# Altium schematic symbol library RF_Filter.SchLib: 201 symbols (part 2 of 2)
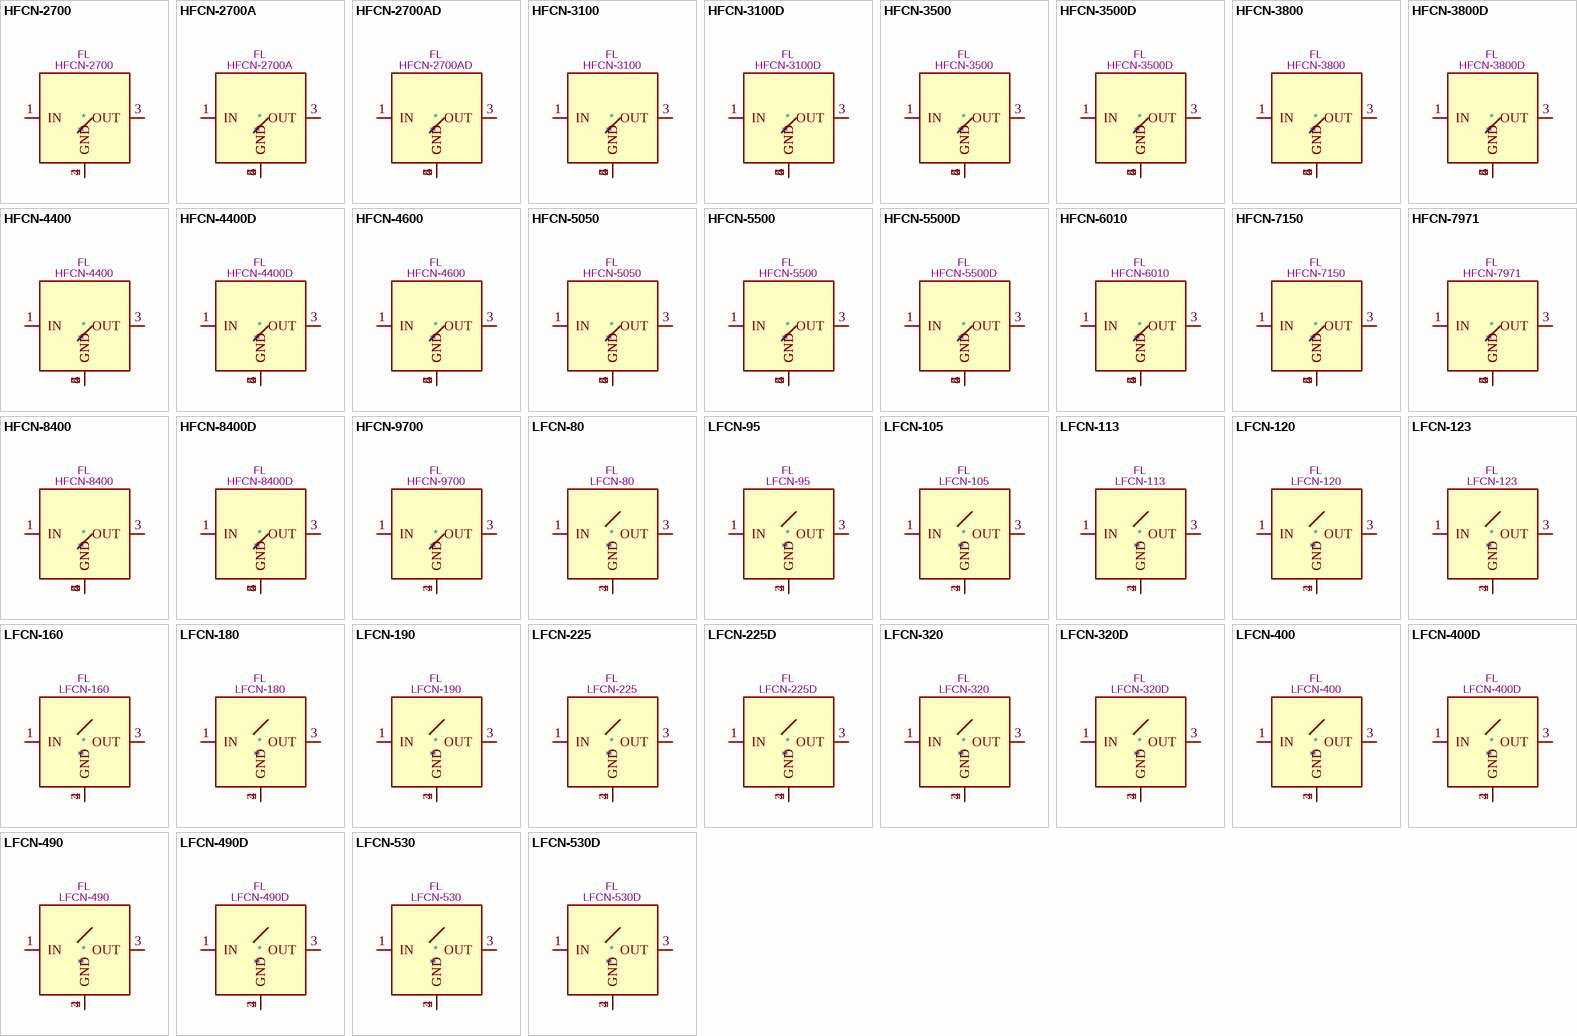
[diagram p6: symbols HFCN-2700 to LFCN-530D]

## LFCN-530D
designator *  value LFCN-530D  Reference: FL
530MHz 50 Ohm Passive Low Pass Filter, DC capable, FV1206; ki_keywords: Mini-Circuits low pass filter; ki_fp_filters: Filter*Mini?Circuits*FV1206*; Footprint: Filter:Filter_Mini-Circuits_FV1206; Datasheet: https://www.minicircuits.com/pdfs/LFCN-530D+.pdf; Description_: 530MHz 50 Ohm Passive Low Pass Filter, DC capable, FV1206
pins: 1 IN, 2 GND, 3 OUT, 4 GND

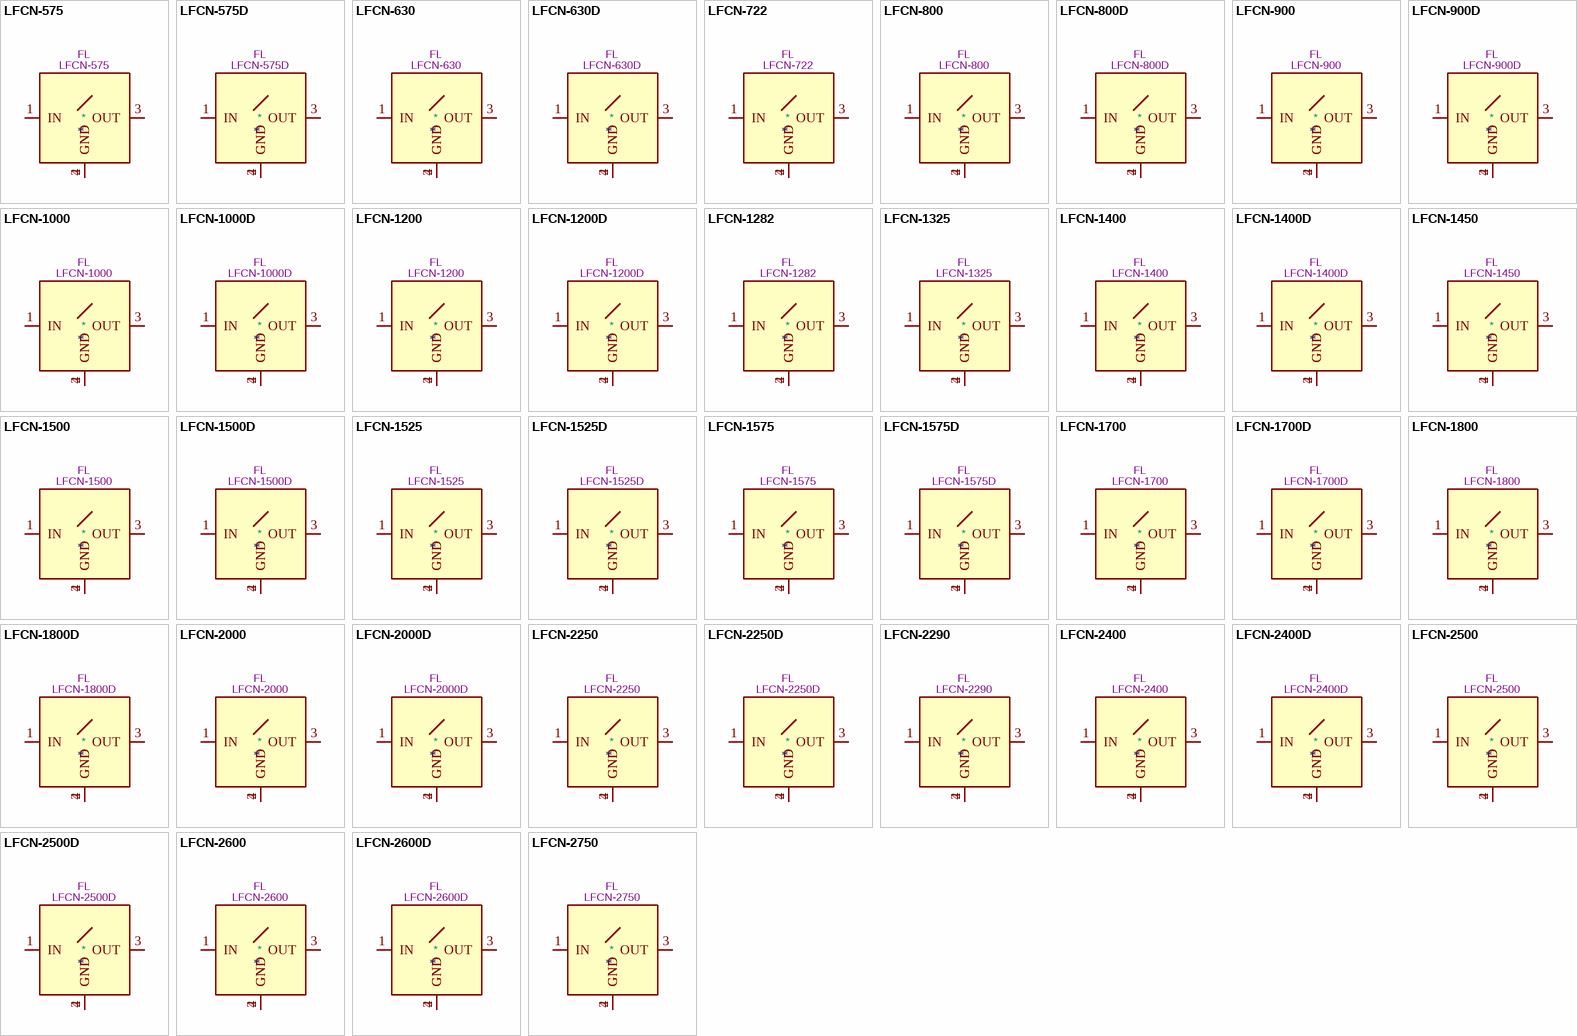
[diagram p3: symbols LFCN-575 to LFCN-2750]

## LFCN-575
designator *  value LFCN-575  Reference: FL
575MHz 50 Ohm Passive Low Pass Filter, FV1206; ki_keywords: Mini-Circuits low pass filter; ki_fp_filters: Filter*Mini?Circuits*FV1206*; Footprint: Filter:Filter_Mini-Circuits_FV1206; Datasheet: https://www.minicircuits.com/pdfs/LFCN-575+.pdf; Description_: 575MHz 50 Ohm Passive Low Pass Filter, FV1206
pins: 1 IN, 2 GND, 3 OUT, 4 GND

## LFCN-575D
designator *  value LFCN-575D  Reference: FL
575MHz 50 Ohm Passive Low Pass Filter, DC capable, FV1206; ki_keywords: Mini-Circuits low pass filter; ki_fp_filters: Filter*Mini?Circuits*FV1206*; Footprint: Filter:Filter_Mini-Circuits_FV1206; Datasheet: https://www.minicircuits.com/pdfs/LFCN-575D+.pdf; Description_: 575MHz 50 Ohm Passive Low Pass Filter, DC capable, FV1206
pins: 1 IN, 2 GND, 3 OUT, 4 GND

## LFCN-630
designator *  value LFCN-630  Reference: FL
630MHz 50 Ohm Passive Low Pass Filter, FV1206; ki_keywords: Mini-Circuits low pass filter; ki_fp_filters: Filter*Mini?Circuits*FV1206*; Footprint: Filter:Filter_Mini-Circuits_FV1206; Datasheet: https://www.minicircuits.com/pdfs/LFCN-630+.pdf; Description_: 630MHz 50 Ohm Passive Low Pass Filter, FV1206
pins: 1 IN, 2 GND, 3 OUT, 4 GND

## LFCN-630D
designator *  value LFCN-630D  Reference: FL
630MHz 50 Ohm Passive Low Pass Filter, DC capable, FV1206; ki_keywords: Mini-Circuits low pass filter; ki_fp_filters: Filter*Mini?Circuits*FV1206*; Footprint: Filter:Filter_Mini-Circuits_FV1206; Datasheet: https://www.minicircuits.com/pdfs/LFCN-630D+.pdf; Description_: 630MHz 50 Ohm Passive Low Pass Filter, DC capable, FV1206
pins: 1 IN, 2 GND, 3 OUT, 4 GND

## LFCN-722
designator *  value LFCN-722  Reference: FL
7200MHz 50 Ohm Passive Low Pass Filter, FV1206; ki_keywords: Mini-Circuits low pass filter; ki_fp_filters: Filter*Mini?Circuits*FV1206*; Footprint: Filter:Filter_Mini-Circuits_FV1206; Datasheet: https://www.minicircuits.com/pdfs/LFCN-722+.pdf; Description_: 7200MHz 50 Ohm Passive Low Pass Filter, FV1206
pins: 1 IN, 2 GND, 3 OUT, 4 GND

## LFCN-800
designator *  value LFCN-800  Reference: FL
800MHz 50 Ohm Passive Low Pass Filter, FV1206; ki_keywords: Mini-Circuits low pass filter; ki_fp_filters: Filter*Mini?Circuits*FV1206*; Footprint: Filter:Filter_Mini-Circuits_FV1206; Datasheet: https://www.minicircuits.com/pdfs/LFCN-800+.pdf; Description_: 800MHz 50 Ohm Passive Low Pass Filter, FV1206
pins: 1 IN, 2 GND, 3 OUT, 4 GND

## LFCN-800D
designator *  value LFCN-800D  Reference: FL
800MHz 50 Ohm Passive Low Pass Filter, DC cabable, FV1206; ki_keywords: Mini-Circuits low pass filter; ki_fp_filters: Filter*Mini?Circuits*FV1206*; Footprint: Filter:Filter_Mini-Circuits_FV1206; Datasheet: https://www.minicircuits.com/pdfs/LFCN-800D+.pdf; Description_: 800MHz 50 Ohm Passive Low Pass Filter, DC cabable, FV1206
pins: 1 IN, 2 GND, 3 OUT, 4 GND

## LFCN-900
designator *  value LFCN-900  Reference: FL
850MHz 50 Ohm Passive Low Pass Filter, FV1206; ki_keywords: Mini-Circuits low pass filter; ki_fp_filters: Filter*Mini?Circuits*FV1206*; Footprint: Filter:Filter_Mini-Circuits_FV1206; Datasheet: https://www.minicircuits.com/pdfs/LFCN-900+.pdf; Description_: 850MHz 50 Ohm Passive Low Pass Filter, FV1206
pins: 1 IN, 2 GND, 3 OUT, 4 GND

## LFCN-900D
designator *  value LFCN-900D  Reference: FL
850MHz 50 Ohm Passive Low Pass Filter, DC cabable, FV1206; ki_keywords: Mini-Circuits low pass filter; ki_fp_filters: Filter*Mini?Circuits*FV1206*; Footprint: Filter:Filter_Mini-Circuits_FV1206; Datasheet: https://www.minicircuits.com/pdfs/LFCN-900D+.pdf; Description_: 850MHz 50 Ohm Passive Low Pass Filter, DC cabable, FV1206
pins: 1 IN, 2 GND, 3 OUT, 4 GND

## LFCN-1000
designator *  value LFCN-1000  Reference: FL
1000MHz 50 Ohm Passive Low Pass Filter, FV1206; ki_keywords: Mini-Circuits low pass filter; ki_fp_filters: Filter*Mini?Circuits*FV1206*; Footprint: Filter:Filter_Mini-Circuits_FV1206; Datasheet: https://www.minicircuits.com/pdfs/LFCN-1000+.pdf; Description_: 1000MHz 50 Ohm Passive Low Pass Filter, FV1206
pins: 1 IN, 2 GND, 3 OUT, 4 GND

## LFCN-1000D
designator *  value LFCN-1000D  Reference: FL
1000MHz 50 Ohm Passive Low Pass Filter, DC capable, FV1206; ki_keywords: Mini-Circuits low pass filter; ki_fp_filters: Filter*Mini?Circuits*FV1206*; Footprint: Filter:Filter_Mini-Circuits_FV1206; Datasheet: https://www.minicircuits.com/pdfs/LFCN-1000D+.pdf; Description_: 1000MHz 50 Ohm Passive Low Pass Filter, DC capable, FV1206
pins: 1 IN, 2 GND, 3 OUT, 4 GND

## LFCN-1200
designator *  value LFCN-1200  Reference: FL
1200MHz 50 Ohm Passive Low Pass Filter, FV1206; ki_keywords: Mini-Circuits low pass filter; ki_fp_filters: Filter*Mini?Circuits*FV1206*; Footprint: Filter:Filter_Mini-Circuits_FV1206; Datasheet: https://www.minicircuits.com/pdfs/LFCN-1200+.pdf; Description_: 1200MHz 50 Ohm Passive Low Pass Filter, FV1206
pins: 1 IN, 2 GND, 3 OUT, 4 GND

## LFCN-1200D
designator *  value LFCN-1200D  Reference: FL
1200MHz 50 Ohm Passive Low Pass Filter, DC capable, FV1206; ki_keywords: Mini-Circuits low pass filter; ki_fp_filters: Filter*Mini?Circuits*FV1206*; Footprint: Filter:Filter_Mini-Circuits_FV1206; Datasheet: https://www.minicircuits.com/pdfs/LFCN-1200D+.pdf; Description_: 1200MHz 50 Ohm Passive Low Pass Filter, DC capable, FV1206
pins: 1 IN, 2 GND, 3 OUT, 4 GND

## LFCN-1282
designator *  value LFCN-1282  Reference: FL
12800MHz 50 Ohm Passive Low Pass Filter, FV1206-4; ki_keywords: Mini-Circuits low pass filter; ki_fp_filters: Filter*Mini?Circuits*FV1206?4*; Footprint: Filter:Filter_Mini-Circuits_FV1206-4; Datasheet: https://www.minicircuits.com/pdfs/LFCN-1282+.pdf; Description_: 12800MHz 50 Ohm Passive Low Pass Filter, FV1206-4
pins: 1 IN, 2 GND, 3 OUT, 4 GND

## LFCN-1325
designator *  value LFCN-1325  Reference: FL
1325MHz 50 Ohm Passive Low Pass Filter, FV1206; ki_keywords: Mini-Circuits low pass filter; ki_fp_filters: Filter*Mini?Circuits*FV1206*; Footprint: Filter:Filter_Mini-Circuits_FV1206; Datasheet: https://www.minicircuits.com/pdfs/LFCN-1325+.pdf; Description_: 1325MHz 50 Ohm Passive Low Pass Filter, FV1206
pins: 1 IN, 2 GND, 3 OUT, 4 GND

## LFCN-1400
designator *  value LFCN-1400  Reference: FL
1400MHz 50 Ohm Passive Low Pass Filter, FV1206; ki_keywords: Mini-Circuits low pass filter; ki_fp_filters: Filter*Mini?Circuits*FV1206*; Footprint: Filter:Filter_Mini-Circuits_FV1206; Datasheet: https://www.minicircuits.com/pdfs/LFCN-1400+.pdf; Description_: 1400MHz 50 Ohm Passive Low Pass Filter, FV1206
pins: 1 IN, 2 GND, 3 OUT, 4 GND

## LFCN-1400D
designator *  value LFCN-1400D  Reference: FL
1400MHz 50 Ohm Passive Low Pass Filter, DC capable, FV1206; ki_keywords: Mini-Circuits low pass filter; ki_fp_filters: Filter*Mini?Circuits*FV1206*; Footprint: Filter:Filter_Mini-Circuits_FV1206; Datasheet: https://www.minicircuits.com/pdfs/LFCN-1400D+.pdf; Description_: 1400MHz 50 Ohm Passive Low Pass Filter, DC capable, FV1206
pins: 1 IN, 2 GND, 3 OUT, 4 GND

## LFCN-1450
designator *  value LFCN-1450  Reference: FL
1450MHz 50 Ohm Passive Low Pass Filter, FV1206; ki_keywords: Mini-Circuits low pass filter; ki_fp_filters: Filter*Mini?Circuits*FV1206*; Footprint: Filter:Filter_Mini-Circuits_FV1206; Datasheet: https://www.minicircuits.com/pdfs/LFCN-1450+.pdf; Description_: 1450MHz 50 Ohm Passive Low Pass Filter, FV1206
pins: 1 IN, 2 GND, 3 OUT, 4 GND

## LFCN-1500
designator *  value LFCN-1500  Reference: FL
1500MHz 50 Ohm Passive Low Pass Filter, FV1206; ki_keywords: Mini-Circuits low pass filter; ki_fp_filters: Filter*Mini?Circuits*FV1206*; Footprint: Filter:Filter_Mini-Circuits_FV1206; Datasheet: https://www.minicircuits.com/pdfs/LFCN-1500+.pdf; Description_: 1500MHz 50 Ohm Passive Low Pass Filter, FV1206
pins: 1 IN, 2 GND, 3 OUT, 4 GND

## LFCN-1500D
designator *  value LFCN-1500D  Reference: FL
1500MHz 50 Ohm Passive Low Pass Filter, DC capable, FV1206; ki_keywords: Mini-Circuits low pass filter; ki_fp_filters: Filter*Mini?Circuits*FV1206*; Footprint: Filter:Filter_Mini-Circuits_FV1206; Datasheet: https://www.minicircuits.com/pdfs/LFCN-1500D+.pdf; Description_: 1500MHz 50 Ohm Passive Low Pass Filter, DC capable, FV1206
pins: 1 IN, 2 GND, 3 OUT, 4 GND

## LFCN-1525
designator *  value LFCN-1525  Reference: FL
1525MHz 50 Ohm Passive Low Pass Filter, FV1206; ki_keywords: Mini-Circuits low pass filter; ki_fp_filters: Filter*Mini?Circuits*FV1206*; Footprint: Filter:Filter_Mini-Circuits_FV1206; Datasheet: https://www.minicircuits.com/pdfs/LFCN-1525+.pdf; Description_: 1525MHz 50 Ohm Passive Low Pass Filter, FV1206
pins: 1 IN, 2 GND, 3 OUT, 4 GND

## LFCN-1525D
designator *  value LFCN-1525D  Reference: FL
1525MHz 50 Ohm Passive Low Pass Filter, DC capable, FV1206; ki_keywords: Mini-Circuits low pass filter; ki_fp_filters: Filter*Mini?Circuits*FV1206*; Footprint: Filter:Filter_Mini-Circuits_FV1206; Datasheet: https://www.minicircuits.com/pdfs/LFCN-1525D+.pdf; Description_: 1525MHz 50 Ohm Passive Low Pass Filter, DC capable, FV1206
pins: 1 IN, 2 GND, 3 OUT, 4 GND

## LFCN-1575
designator *  value LFCN-1575  Reference: FL
1575MHz 50 Ohm Passive Low Pass Filter, FV1206; ki_keywords: Mini-Circuits low pass filter; ki_fp_filters: Filter*Mini?Circuits*FV1206*; Footprint: Filter:Filter_Mini-Circuits_FV1206; Datasheet: https://www.minicircuits.com/pdfs/LFCN-1575+.pdf; Description_: 1575MHz 50 Ohm Passive Low Pass Filter, FV1206
pins: 1 IN, 2 GND, 3 OUT, 4 GND

## LFCN-1575D
designator *  value LFCN-1575D  Reference: FL
1575MHz 50 Ohm Passive Low Pass Filter, DC capable, FV1206; ki_keywords: Mini-Circuits low pass filter; ki_fp_filters: Filter*Mini?Circuits*FV1206*; Footprint: Filter:Filter_Mini-Circuits_FV1206; Datasheet: https://www.minicircuits.com/pdfs/LFCN-1575D+.pdf; Description_: 1575MHz 50 Ohm Passive Low Pass Filter, DC capable, FV1206
pins: 1 IN, 2 GND, 3 OUT, 4 GND

## LFCN-1700
designator *  value LFCN-1700  Reference: FL
1700MHz 50 Ohm Passive Low Pass Filter, FV1206; ki_keywords: Mini-Circuits low pass filter; ki_fp_filters: Filter*Mini?Circuits*FV1206*; Footprint: Filter:Filter_Mini-Circuits_FV1206; Datasheet: https://www.minicircuits.com/pdfs/LFCN-1700+.pdf; Description_: 1700MHz 50 Ohm Passive Low Pass Filter, FV1206
pins: 1 IN, 2 GND, 3 OUT, 4 GND

## LFCN-1700D
designator *  value LFCN-1700D  Reference: FL
1700MHz 50 Ohm Passive Low Pass Filter, DC capable, FV1206; ki_keywords: Mini-Circuits low pass filter; ki_fp_filters: Filter*Mini?Circuits*FV1206*; Footprint: Filter:Filter_Mini-Circuits_FV1206; Datasheet: https://www.minicircuits.com/pdfs/LFCN-1700D+.pdf; Description_: 1700MHz 50 Ohm Passive Low Pass Filter, DC capable, FV1206
pins: 1 IN, 2 GND, 3 OUT, 4 GND

## LFCN-1800
designator *  value LFCN-1800  Reference: FL
1800MHz 50 Ohm Passive Low Pass Filter, FV1206; ki_keywords: Mini-Circuits low pass filter; ki_fp_filters: Filter*Mini?Circuits*FV1206*; Footprint: Filter:Filter_Mini-Circuits_FV1206; Datasheet: https://www.minicircuits.com/pdfs/LFCN-1800+.pdf; Description_: 1800MHz 50 Ohm Passive Low Pass Filter, FV1206
pins: 1 IN, 2 GND, 3 OUT, 4 GND

## LFCN-1800D
designator *  value LFCN-1800D  Reference: FL
1800MHz 50 Ohm Passive Low Pass Filter, DC capable, FV1206; ki_keywords: Mini-Circuits low pass filter; ki_fp_filters: Filter*Mini?Circuits*FV1206*; Footprint: Filter:Filter_Mini-Circuits_FV1206; Datasheet: https://www.minicircuits.com/pdfs/LFCN-1800D+.pdf; Description_: 1800MHz 50 Ohm Passive Low Pass Filter, DC capable, FV1206
pins: 1 IN, 2 GND, 3 OUT, 4 GND

## LFCN-2000
designator *  value LFCN-2000  Reference: FL
2000MHz 50 Ohm Passive Low Pass Filter, FV1206; ki_keywords: Mini-Circuits low pass filter; ki_fp_filters: Filter*Mini?Circuits*FV1206*; Footprint: Filter:Filter_Mini-Circuits_FV1206; Datasheet: https://www.minicircuits.com/pdfs/LFCN-2000+.pdf; Description_: 2000MHz 50 Ohm Passive Low Pass Filter, FV1206
pins: 1 IN, 2 GND, 3 OUT, 4 GND

## LFCN-2000D
designator *  value LFCN-2000D  Reference: FL
2000MHz 50 Ohm Passive Low Pass Filter, DC capable, FV1206; ki_keywords: Mini-Circuits low pass filter; ki_fp_filters: Filter*Mini?Circuits*FV1206*; Footprint: Filter:Filter_Mini-Circuits_FV1206; Datasheet: https://www.minicircuits.com/pdfs/LFCN-2000D+.pdf; Description_: 2000MHz 50 Ohm Passive Low Pass Filter, DC capable, FV1206
pins: 1 IN, 2 GND, 3 OUT, 4 GND

## LFCN-2250
designator *  value LFCN-2250  Reference: FL
2200MHz 50 Ohm Passive Low Pass Filter, FV1206; ki_keywords: Mini-Circuits low pass filter; ki_fp_filters: Filter*Mini?Circuits*FV1206*; Footprint: Filter:Filter_Mini-Circuits_FV1206; Datasheet: https://www.minicircuits.com/pdfs/LFCN-2250+.pdf; Description_: 2200MHz 50 Ohm Passive Low Pass Filter, FV1206
pins: 1 IN, 2 GND, 3 OUT, 4 GND

## LFCN-2250D
designator *  value LFCN-2250D  Reference: FL
2250MHz 50 Ohm Passive Low Pass Filter, DC capable, FV1206; ki_keywords: Mini-Circuits low pass filter; ki_fp_filters: Filter*Mini?Circuits*FV1206*; Footprint: Filter:Filter_Mini-Circuits_FV1206; Datasheet: https://www.minicircuits.com/pdfs/LFCN-2250D+.pdf; Description_: 2250MHz 50 Ohm Passive Low Pass Filter, DC capable, FV1206
pins: 1 IN, 2 GND, 3 OUT, 4 GND

## LFCN-2290
designator *  value LFCN-2290  Reference: FL
2290MHz 50 Ohm Passive Low Pass Filter, FV1206; ki_keywords: Mini-Circuits low pass filter; ki_fp_filters: Filter*Mini?Circuits*FV1206*; Footprint: Filter:Filter_Mini-Circuits_FV1206; Datasheet: https://www.minicircuits.com/pdfs/LFCN-2290+.pdf; Description_: 2290MHz 50 Ohm Passive Low Pass Filter, FV1206
pins: 1 IN, 2 GND, 3 OUT, 4 GND

## LFCN-2400
designator *  value LFCN-2400  Reference: FL
2400MHz 50 Ohm Passive Low Pass Filter, FV1206; ki_keywords: Mini-Circuits low pass filter; ki_fp_filters: Filter*Mini?Circuits*FV1206*; Footprint: Filter:Filter_Mini-Circuits_FV1206; Datasheet: https://www.minicircuits.com/pdfs/LFCN-2400+.pdf; Description_: 2400MHz 50 Ohm Passive Low Pass Filter, FV1206
pins: 1 IN, 2 GND, 3 OUT, 4 GND

## LFCN-2400D
designator *  value LFCN-2400D  Reference: FL
2400MHz 50 Ohm Passive Low Pass Filter, DC capable, FV1206; ki_keywords: Mini-Circuits low pass filter; ki_fp_filters: Filter*Mini?Circuits*FV1206*; Footprint: Filter:Filter_Mini-Circuits_FV1206; Datasheet: https://www.minicircuits.com/pdfs/LFCN-2400D+.pdf; Description_: 2400MHz 50 Ohm Passive Low Pass Filter, DC capable, FV1206
pins: 1 IN, 2 GND, 3 OUT, 4 GND

## LFCN-2500
designator *  value LFCN-2500  Reference: FL
2500MHz 50 Ohm Passive Low Pass Filter, FV1206; ki_keywords: Mini-Circuits low pass filter; ki_fp_filters: Filter*Mini?Circuits*FV1206*; Footprint: Filter:Filter_Mini-Circuits_FV1206; Datasheet: https://www.minicircuits.com/pdfs/LFCN-2500+.pdf; Description_: 2500MHz 50 Ohm Passive Low Pass Filter, FV1206
pins: 1 IN, 2 GND, 3 OUT, 4 GND

## LFCN-2500D
designator *  value LFCN-2500D  Reference: FL
2500MHz 50 Ohm Passive Low Pass Filter, DC capable, FV1206; ki_keywords: Mini-Circuits low pass filter; ki_fp_filters: Filter*Mini?Circuits*FV1206*; Footprint: Filter:Filter_Mini-Circuits_FV1206; Datasheet: https://www.minicircuits.com/pdfs/LFCN-2500D+.pdf; Description_: 2500MHz 50 Ohm Passive Low Pass Filter, DC capable, FV1206
pins: 1 IN, 2 GND, 3 OUT, 4 GND

## LFCN-2600
designator *  value LFCN-2600  Reference: FL
2600MHz 50 Ohm Passive Low Pass Filter, FV1206; ki_keywords: Mini-Circuits low pass filter; ki_fp_filters: Filter*Mini?Circuits*FV1206*; Footprint: Filter:Filter_Mini-Circuits_FV1206; Datasheet: https://www.minicircuits.com/pdfs/LFCN-2600+.pdf; Description_: 2600MHz 50 Ohm Passive Low Pass Filter, FV1206
pins: 1 IN, 2 GND, 3 OUT, 4 GND

## LFCN-2600D
designator *  value LFCN-2600D  Reference: FL
2600MHz 50 Ohm Passive Low Pass Filter, DC capable, FV1206; ki_keywords: Mini-Circuits low pass filter; ki_fp_filters: Filter*Mini?Circuits*FV1206*; Footprint: Filter:Filter_Mini-Circuits_FV1206; Datasheet: https://www.minicircuits.com/pdfs/LFCN-2600D+.pdf; Description_: 2600MHz 50 Ohm Passive Low Pass Filter, DC capable, FV1206
pins: 1 IN, 2 GND, 3 OUT, 4 GND

## LFCN-2750
designator *  value LFCN-2750  Reference: FL
2750MHz 50 Ohm Passive Low Pass Filter, FV1206; ki_keywords: Mini-Circuits low pass filter; ki_fp_filters: Filter*Mini?Circuits*FV1206*; Footprint: Filter:Filter_Mini-Circuits_FV1206; Datasheet: https://www.minicircuits.com/pdfs/LFCN-2750+.pdf; Description_: 2750MHz 50 Ohm Passive Low Pass Filter, FV1206
pins: 1 IN, 2 GND, 3 OUT, 4 GND

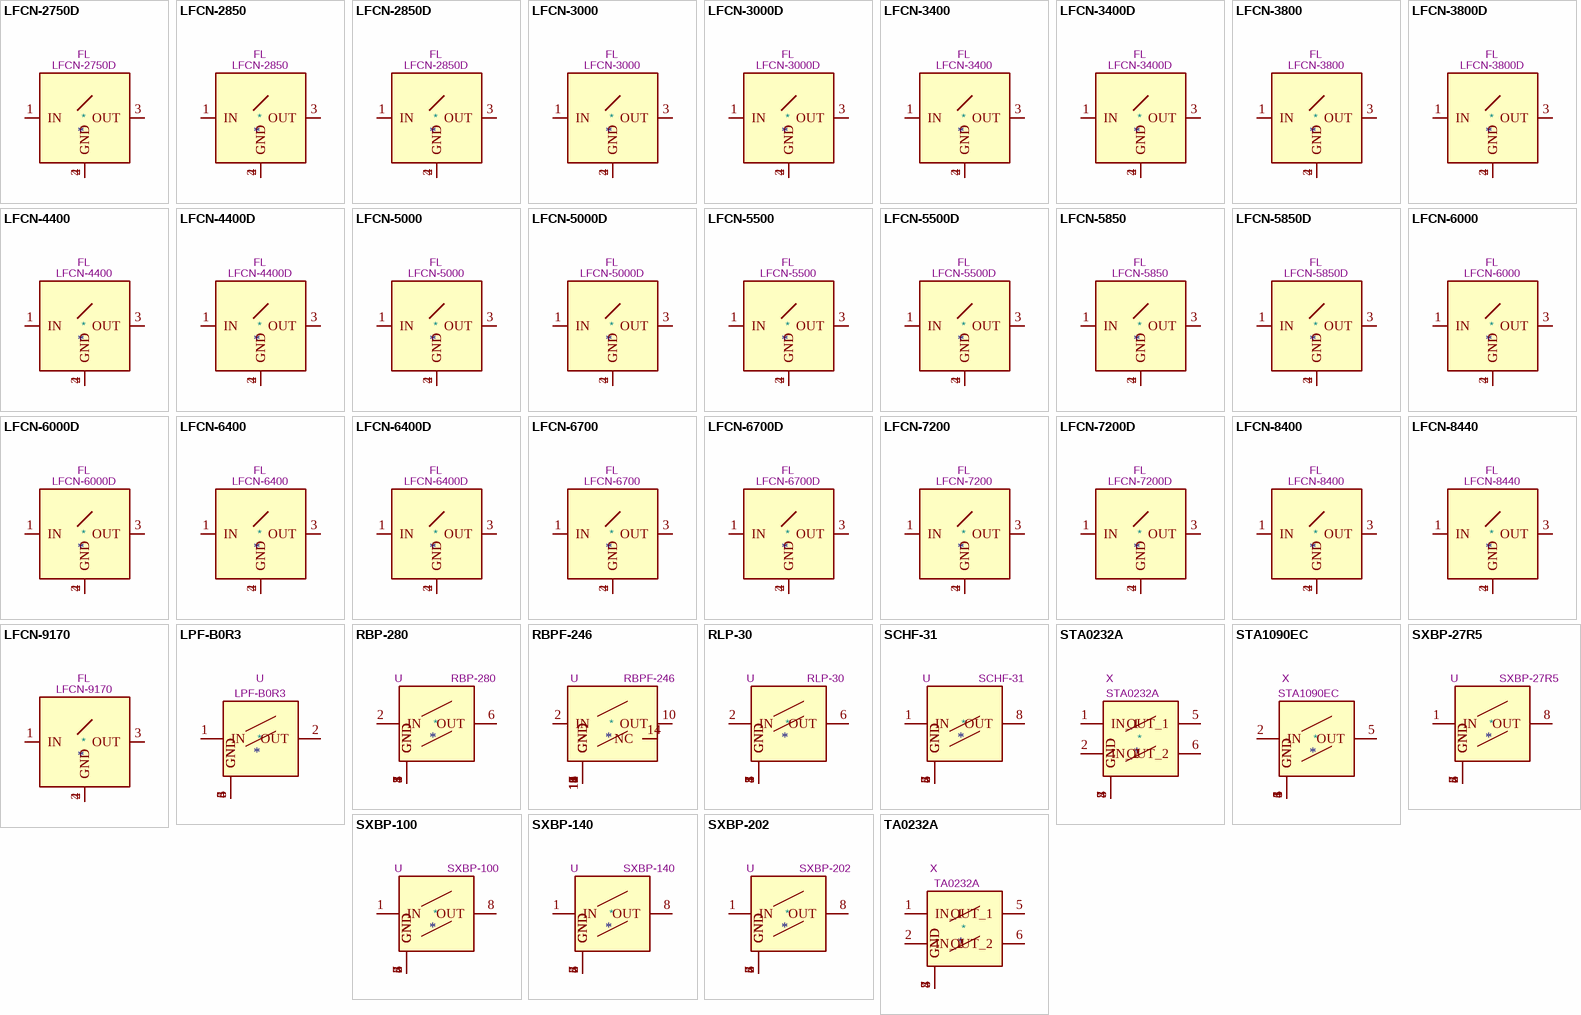
[diagram p4: symbols LFCN-2750D to TA0232A]

## LFCN-2750D
designator *  value LFCN-2750D  Reference: FL
2750MHz 50 Ohm Passive Low Pass Filter, DC capable, FV1206; ki_keywords: Mini-Circuits low pass filter; ki_fp_filters: Filter*Mini?Circuits*FV1206*; Footprint: Filter:Filter_Mini-Circuits_FV1206; Datasheet: https://www.minicircuits.com/pdfs/LFCN-2750D+.pdf; Description_: 2750MHz 50 Ohm Passive Low Pass Filter, DC capable, FV1206
pins: 1 IN, 2 GND, 3 OUT, 4 GND

## LFCN-2850
designator *  value LFCN-2850  Reference: FL
2800MHz 50 Ohm Passive Low Pass Filter, FV1206; ki_keywords: Mini-Circuits low pass filter; ki_fp_filters: Filter*Mini?Circuits*FV1206*; Footprint: Filter:Filter_Mini-Circuits_FV1206; Datasheet: https://www.minicircuits.com/pdfs/LFCN-2850+.pdf; Description_: 2800MHz 50 Ohm Passive Low Pass Filter, FV1206
pins: 1 IN, 2 GND, 3 OUT, 4 GND

## LFCN-2850D
designator *  value LFCN-2850D  Reference: FL
2800MHz 50 Ohm Passive Low Pass Filter, DC capable, FV1206; ki_keywords: Mini-Circuits low pass filter; ki_fp_filters: Filter*Mini?Circuits*FV1206*; Footprint: Filter:Filter_Mini-Circuits_FV1206; Datasheet: https://www.minicircuits.com/pdfs/LFCN-2850D+.pdf; Description_: 2800MHz 50 Ohm Passive Low Pass Filter, DC capable, FV1206
pins: 1 IN, 2 GND, 3 OUT, 4 GND

## LFCN-3000
designator *  value LFCN-3000  Reference: FL
3000MHz 50 Ohm Passive Low Pass Filter, FV1206; ki_keywords: Mini-Circuits low pass filter; ki_fp_filters: Filter*Mini?Circuits*FV1206*; Footprint: Filter:Filter_Mini-Circuits_FV1206; Datasheet: https://www.minicircuits.com/pdfs/LFCN-3000+.pdf; Description_: 3000MHz 50 Ohm Passive Low Pass Filter, FV1206
pins: 1 IN, 2 GND, 3 OUT, 4 GND

## LFCN-3000D
designator *  value LFCN-3000D  Reference: FL
3000MHz 50 Ohm Passive Low Pass Filter, DC capable, FV1206; ki_keywords: Mini-Circuits low pass filter; ki_fp_filters: Filter*Mini?Circuits*FV1206*; Footprint: Filter:Filter_Mini-Circuits_FV1206; Datasheet: https://www.minicircuits.com/pdfs/LFCN-3000D+.pdf; Description_: 3000MHz 50 Ohm Passive Low Pass Filter, DC capable, FV1206
pins: 1 IN, 2 GND, 3 OUT, 4 GND

## LFCN-3400
designator *  value LFCN-3400  Reference: FL
3400MHz 50 Ohm Passive Low Pass Filter, FV1206; ki_keywords: Mini-Circuits low pass filter; ki_fp_filters: Filter*Mini?Circuits*FV1206*; Footprint: Filter:Filter_Mini-Circuits_FV1206; Datasheet: https://www.minicircuits.com/pdfs/LFCN-3400+.pdf; Description_: 3400MHz 50 Ohm Passive Low Pass Filter, FV1206
pins: 1 IN, 2 GND, 3 OUT, 4 GND

## LFCN-3400D
designator *  value LFCN-3400D  Reference: FL
3400MHz 50 Ohm Passive Low Pass Filter, DC capable, FV1206; ki_keywords: Mini-Circuits low pass filter; ki_fp_filters: Filter*Mini?Circuits*FV1206*; Footprint: Filter:Filter_Mini-Circuits_FV1206; Datasheet: https://www.minicircuits.com/pdfs/LFCN-3400D+.pdf; Description_: 3400MHz 50 Ohm Passive Low Pass Filter, DC capable, FV1206
pins: 1 IN, 2 GND, 3 OUT, 4 GND

## LFCN-3800
designator *  value LFCN-3800  Reference: FL
3900MHz 50 Ohm Passive Low Pass Filter, FV1206; ki_keywords: Mini-Circuits low pass filter; ki_fp_filters: Filter*Mini?Circuits*FV1206*; Footprint: Filter:Filter_Mini-Circuits_FV1206; Datasheet: https://www.minicircuits.com/pdfs/LFCN-3800+.pdf; Description_: 3900MHz 50 Ohm Passive Low Pass Filter, FV1206
pins: 1 IN, 2 GND, 3 OUT, 4 GND

## LFCN-3800D
designator *  value LFCN-3800D  Reference: FL
3900MHz 50 Ohm Passive Low Pass Filter, DC capable, FV1206; ki_keywords: Mini-Circuits low pass filter; ki_fp_filters: Filter*Mini?Circuits*FV1206*; Footprint: Filter:Filter_Mini-Circuits_FV1206; Datasheet: https://www.minicircuits.com/pdfs/LFCN-3800D+.pdf; Description_: 3900MHz 50 Ohm Passive Low Pass Filter, DC capable, FV1206
pins: 1 IN, 2 GND, 3 OUT, 4 GND

## LFCN-4400
designator *  value LFCN-4400  Reference: FL
4400MHz 50 Ohm Passive Low Pass Filter, FV1206; ki_keywords: Mini-Circuits low pass filter; ki_fp_filters: Filter*Mini?Circuits*FV1206*; Footprint: Filter:Filter_Mini-Circuits_FV1206; Datasheet: https://www.minicircuits.com/pdfs/LFCN-4400+.pdf; Description_: 4400MHz 50 Ohm Passive Low Pass Filter, FV1206
pins: 1 IN, 2 GND, 3 OUT, 4 GND

## LFCN-4400D
designator *  value LFCN-4400D  Reference: FL
4400MHz 50 Ohm Passive Low Pass Filter, DC capable, FV1206; ki_keywords: Mini-Circuits low pass filter; ki_fp_filters: Filter*Mini?Circuits*FV1206*; Footprint: Filter:Filter_Mini-Circuits_FV1206; Datasheet: https://www.minicircuits.com/pdfs/LFCN-4400D+.pdf; Description_: 4400MHz 50 Ohm Passive Low Pass Filter, DC capable, FV1206
pins: 1 IN, 2 GND, 3 OUT, 4 GND

## LFCN-5000
designator *  value LFCN-5000  Reference: FL
5000MHz 50 Ohm Passive Low Pass Filter, FV1206; ki_keywords: Mini-Circuits low pass filter; ki_fp_filters: Filter*Mini?Circuits*FV1206*; Footprint: Filter:Filter_Mini-Circuits_FV1206; Datasheet: https://www.minicircuits.com/pdfs/LFCN-5000+.pdf; Description_: 5000MHz 50 Ohm Passive Low Pass Filter, FV1206
pins: 1 IN, 2 GND, 3 OUT, 4 GND

## LFCN-5000D
designator *  value LFCN-5000D  Reference: FL
5000MHz 50 Ohm Passive Low Pass Filter, DC capable, FV1206; ki_keywords: Mini-Circuits low pass filter; ki_fp_filters: Filter*Mini?Circuits*FV1206*; Footprint: Filter:Filter_Mini-Circuits_FV1206; Datasheet: https://www.minicircuits.com/pdfs/LFCN-5000D+.pdf; Description_: 5000MHz 50 Ohm Passive Low Pass Filter, DC capable, FV1206
pins: 1 IN, 2 GND, 3 OUT, 4 GND

## LFCN-5500
designator *  value LFCN-5500  Reference: FL
5500MHz 50 Ohm Passive Low Pass Filter, FV1206; ki_keywords: Mini-Circuits low pass filter; ki_fp_filters: Filter*Mini?Circuits*FV1206*; Footprint: Filter:Filter_Mini-Circuits_FV1206; Datasheet: https://www.minicircuits.com/pdfs/LFCN-5500+.pdf; Description_: 5500MHz 50 Ohm Passive Low Pass Filter, FV1206
pins: 1 IN, 2 GND, 3 OUT, 4 GND

## LFCN-5500D
designator *  value LFCN-5500D  Reference: FL
5500MHz 50 Ohm Passive Low Pass Filter, DC capable, FV1206; ki_keywords: Mini-Circuits low pass filter; ki_fp_filters: Filter*Mini?Circuits*FV1206*; Footprint: Filter:Filter_Mini-Circuits_FV1206; Datasheet: https://www.minicircuits.com/pdfs/LFCN-5500D+.pdf; Description_: 5500MHz 50 Ohm Passive Low Pass Filter, DC capable, FV1206
pins: 1 IN, 2 GND, 3 OUT, 4 GND

## LFCN-5850
designator *  value LFCN-5850  Reference: FL
5850MHz 50 Ohm Passive Low Pass Filter, FV1206; ki_keywords: Mini-Circuits low pass filter; ki_fp_filters: Filter*Mini?Circuits*FV1206*; Footprint: Filter:Filter_Mini-Circuits_FV1206; Datasheet: https://www.minicircuits.com/pdfs/LFCN-5850+.pdf; Description_: 5850MHz 50 Ohm Passive Low Pass Filter, FV1206
pins: 1 IN, 2 GND, 3 OUT, 4 GND

## LFCN-5850D
designator *  value LFCN-5850D  Reference: FL
5850MHz 50 Ohm Passive Low Pass Filter, DC capable, FV1206; ki_keywords: Mini-Circuits low pass filter; ki_fp_filters: Filter*Mini?Circuits*FV1206*; Footprint: Filter:Filter_Mini-Circuits_FV1206; Datasheet: https://www.minicircuits.com/pdfs/LFCN-5850D+.pdf; Description_: 5850MHz 50 Ohm Passive Low Pass Filter, DC capable, FV1206
pins: 1 IN, 2 GND, 3 OUT, 4 GND

## LFCN-6000
designator *  value LFCN-6000  Reference: FL
6000MHz 50 Ohm Passive Low Pass Filter, FV1206; ki_keywords: Mini-Circuits low pass filter; ki_fp_filters: Filter*Mini?Circuits*FV1206*; Footprint: Filter:Filter_Mini-Circuits_FV1206; Datasheet: https://www.minicircuits.com/pdfs/LFCN-6000+.pdf; Description_: 6000MHz 50 Ohm Passive Low Pass Filter, FV1206
pins: 1 IN, 2 GND, 3 OUT, 4 GND

## LFCN-6000D
designator *  value LFCN-6000D  Reference: FL
6000MHz 50 Ohm Passive Low Pass Filter, DC capable, FV1206; ki_keywords: Mini-Circuits low pass filter; ki_fp_filters: Filter*Mini?Circuits*FV1206*; Footprint: Filter:Filter_Mini-Circuits_FV1206; Datasheet: https://www.minicircuits.com/pdfs/LFCN-6000D+.pdf; Description_: 6000MHz 50 Ohm Passive Low Pass Filter, DC capable, FV1206
pins: 1 IN, 2 GND, 3 OUT, 4 GND

## LFCN-6400
designator *  value LFCN-6400  Reference: FL
6400MHz 50 Ohm Passive Low Pass Filter, FV1206; ki_keywords: Mini-Circuits low pass filter; ki_fp_filters: Filter*Mini?Circuits*FV1206*; Footprint: Filter:Filter_Mini-Circuits_FV1206; Datasheet: https://www.minicircuits.com/pdfs/LFCN-6400+.pdf; Description_: 6400MHz 50 Ohm Passive Low Pass Filter, FV1206
pins: 1 IN, 2 GND, 3 OUT, 4 GND

## LFCN-6400D
designator *  value LFCN-6400D  Reference: FL
6400MHz 50 Ohm Passive Low Pass Filter, DC capable, FV1206; ki_keywords: Mini-Circuits low pass filter; ki_fp_filters: Filter*Mini?Circuits*FV1206*; Footprint: Filter:Filter_Mini-Circuits_FV1206; Datasheet: https://www.minicircuits.com/pdfs/LFCN-6400D+.pdf; Description_: 6400MHz 50 Ohm Passive Low Pass Filter, DC capable, FV1206
pins: 1 IN, 2 GND, 3 OUT, 4 GND

## LFCN-6700
designator *  value LFCN-6700  Reference: FL
6700MHz 50 Ohm Passive Low Pass Filter, FV1206; ki_keywords: Mini-Circuits low pass filter; ki_fp_filters: Filter*Mini?Circuits*FV1206*; Footprint: Filter:Filter_Mini-Circuits_FV1206; Datasheet: https://www.minicircuits.com/pdfs/LFCN-6700+.pdf; Description_: 6700MHz 50 Ohm Passive Low Pass Filter, FV1206
pins: 1 IN, 2 GND, 3 OUT, 4 GND

## LFCN-6700D
designator *  value LFCN-6700D  Reference: FL
6700MHz 50 Ohm Passive Low Pass Filter, DC cabable, FV1206; ki_keywords: Mini-Circuits low pass filter; ki_fp_filters: Filter*Mini?Circuits*FV1206*; Footprint: Filter:Filter_Mini-Circuits_FV1206; Datasheet: https://www.minicircuits.com/pdfs/LFCN-6700D+.pdf; Description_: 6700MHz 50 Ohm Passive Low Pass Filter, DC cabable, FV1206
pins: 1 IN, 2 GND, 3 OUT, 4 GND

## LFCN-7200
designator *  value LFCN-7200  Reference: FL
7200MHz 50 Ohm Passive Low Pass Filter, FV1206; ki_keywords: Mini-Circuits low pass filter; ki_fp_filters: Filter*Mini?Circuits*FV1206*; Footprint: Filter:Filter_Mini-Circuits_FV1206; Datasheet: https://www.minicircuits.com/pdfs/LFCN-7200+.pdf; Description_: 7200MHz 50 Ohm Passive Low Pass Filter, FV1206
pins: 1 IN, 2 GND, 3 OUT, 4 GND

## LFCN-7200D
designator *  value LFCN-7200D  Reference: FL
7200MHz 50 Ohm Passive Low Pass Filter, DC cabable, FV1206; ki_keywords: Mini-Circuits low pass filter; ki_fp_filters: Filter*Mini?Circuits*FV1206*; Footprint: Filter:Filter_Mini-Circuits_FV1206; Datasheet: https://www.minicircuits.com/pdfs/LFCN-7200D+.pdf; Description_: 7200MHz 50 Ohm Passive Low Pass Filter, DC cabable, FV1206
pins: 1 IN, 2 GND, 3 OUT, 4 GND

## LFCN-8400
designator *  value LFCN-8400  Reference: FL
8400MHz 50 Ohm Passive Low Pass Filter, FV1206-4; ki_keywords: Mini-Circuits low pass filter; ki_fp_filters: Filter*Mini?Circuits*FV1206?4*; Footprint: Filter:Filter_Mini-Circuits_FV1206-4; Datasheet: https://www.minicircuits.com/pdfs/LFCN-8400+.pdf; Description_: 8400MHz 50 Ohm Passive Low Pass Filter, FV1206-4
pins: 1 IN, 2 GND, 3 OUT, 4 GND

## LFCN-8440
designator *  value LFCN-8440  Reference: FL
8440MHz 50 Ohm Passive Low Pass Filter, FV1206-4; ki_keywords: Mini-Circuits low pass filter; ki_fp_filters: Filter*Mini?Circuits*FV1206?4*; Footprint: Filter:Filter_Mini-Circuits_FV1206-4; Datasheet: https://www.minicircuits.com/pdfs/LFCN-8440+.pdf; Description_: 8440MHz 50 Ohm Passive Low Pass Filter, FV1206-4
pins: 1 IN, 2 GND, 3 OUT, 4 GND

## LFCN-9170
designator *  value LFCN-9170  Reference: FL
9170MHz 50 Ohm Passive Low Pass Filter, FV1206-4; ki_keywords: Mini-Circuits low pass filter; ki_fp_filters: Filter*Mini?Circuits*FV1206?4*; Footprint: Filter:Filter_Mini-Circuits_FV1206-4; Datasheet: https://www.minicircuits.com/pdfs/LFCN-9170+.pdf; Description_: 9170MHz 50 Ohm Passive Low Pass Filter, FV1206-4
pins: 1 IN, 2 GND, 3 OUT, 4 GND

## LPF-B0R3
designator *  value LPF-B0R3  Reference: U
Low Pass Filter, DC to 0.3 MHz, 50 Ohm, Mini-Circuits HZ1198; ki_fp_filters: Mini?Circuits*HZ1198*; Footprint: RF_Mini-Circuits:Mini-Circuits_HZ1198_LandPatternPL-247; Datasheet: https://www.minicircuits.com/pdfs/LPF-B0R3+.pdf; Description_: Low Pass Filter, DC to 0.3 MHz, 50 Ohm, Mini-Circuits HZ1198; ki_keywords: low pass filter
pins: 1 IN, 2 OUT, 3 GND, 4 GND, 5 GND, 6 GND

## RBP-280
designator *  value RBP-280  Reference: U
Bandpass Filter, 260 to 310 MHz, 50 Ohm, Mini-Circuits GP731; ki_keywords: bandpass filter rf; ki_fp_filters: Mini?Circuits*GP731*; Footprint: RF_Mini-Circuits:Mini-Circuits_GP731_LandPatternPL-176; Datasheet: https://www.minicircuits.com/pdfs/RBP-280+.pdf; Description_: Bandpass Filter, 260 to 310 MHz, 50 Ohm, Mini-Circuits GP731
pins: 1 GND, 2 IN, 3 GND, 4 GND, 5 GND, 6 OUT, 7 GND, 8 GND

## RBPF-246
designator *  value RBPF-246  Reference: U
Bandpass Filter, 236 to 265 MHz, 50 Ohm, Mini-Circuits CK605; ki_fp_filters: Mini?Circuits*CK605*; Footprint: RF_Mini-Circuits:Mini-Circuits_CK605_LandPatternPL-012; Datasheet: https://www.minicircuits.com/pdfs/RBPF-246+.pdf; Description_: Bandpass Filter, 236 to 265 MHz, 50 Ohm, Mini-Circuits CK605; ki_keywords: Bandpass Filter
pins: 1 GND, 2 IN, 3 GND, 4 GND, 5 GND, 6 GND, 7 GND, 8 GND, 9 GND, 10 OUT, 11 GND, 12 GND, 13 GND, 14 NC, 15 GND, 16 GND

## RLP-30
designator *  value RLP-30  Reference: U
Low Pass Filter, DC to 30 MHz, 50 Ohm, Mini-Circuits GP1212; ki_fp_filters: Mini?Circuits*GP1212*; Footprint: RF_Mini-Circuits:Mini-Circuits_GP1212_LandPatternPL-176; Datasheet: https://www.minicircuits.com/pdfs/RLP-30+.pdf; Description_: Low Pass Filter, DC to 30 MHz, 50 Ohm, Mini-Circuits GP1212; ki_keywords: Low Pass Filter
pins: 1 GND, 2 IN, 3 GND, 4 GND, 5 GND, 6 OUT, 7 GND, 8 GND

## SCHF-31
designator *  value SCHF-31  Reference: U
High Pass Filter, 31 to 1500 MHz, 50 Ohm, Mini-Circuits YY161; ki_keywords: highpass filter rf; ki_fp_filters: Mini?Circuits*YY161*; Footprint: RF_Mini-Circuits:Mini-Circuits_YY161_LandPatternPL-049; Datasheet: https://www.minicircuits.com/pdfs/SCHF-31+.pdf; Description_: High Pass Filter, 31 to 1500 MHz, 50 Ohm, Mini-Circuits YY161
pins: 1 IN, 2 GND, 3 GND, 4 GND, 5 GND, 6 GND, 7 GND, 8 OUT

## STA0232A
designator *  value STA0232A  Reference: X
Bandpass Filter, 1090MHz, SAW filter 8-pin; ki_keywords: SAW Filter 1090 bandpass; ki_fp_filters: Filter*SAW*3.8x3.8mm*; Footprint: Filter:Filter_SAW-8_3.8x3.8mm; Datasheet: https://www.golledge.com/media/1831/ma05497.pdf; Description_: Bandpass Filter, 1090MHz, SAW filter 8-pin
pins: 1 IN_1, 2 IN_2, 3 GND, 4 GND, 5 OUT_1, 6 OUT_2, 7 GND, 8 GND

## STA1090EC
designator *  value STA1090EC  Reference: X
Bandpass Filter, 1090MHz, SAW filter 6-pin; ki_keywords: SAW Filter 1090 bandpass; ki_fp_filters: Filter*SAW*3.8x3.8mm*; Footprint: Filter:Filter_SAW-6_3.8x3.8mm; Datasheet: https://www.golledge.com/media/3785/mp08167.pdf; Description_: Bandpass Filter, 1090MHz, SAW filter 6-pin
pins: 1 GND, 2 IN, 3 GND, 4 GND, 5 OUT, 6 GND

## SXBP-27R5
designator *  value SXBP-27R5  Reference: U
Bandpass Filter, 24 to 31 MHz, 50 Ohm, Mini-Circuits HF1139; ki_fp_filters: Mini?Circuits*HF1139*; Footprint: RF_Mini-Circuits:Mini-Circuits_HF1139_LandPatternPL-230; Datasheet: https://www.minicircuits.com/pdfs/SXBP-27R5+.pdf; Description_: Bandpass Filter, 24 to 31 MHz, 50 Ohm, Mini-Circuits HF1139; ki_keywords: bandpass filter
pins: 1 IN, 2 GND, 3 GND, 4 GND, 5 GND, 6 GND, 7 GND, 8 OUT

## SXBP-100
designator *  value SXBP-100  Reference: U
Bandpass Filter, 87 to 117 MHz, 50 Ohm, Mini-Circuits HF1139; ki_fp_filters: Mini?Circuits*HF1139*; Footprint: RF_Mini-Circuits:Mini-Circuits_HF1139_LandPatternPL-230; Datasheet: https://www.minicircuits.com/pdfs/SXBP-100+.pdf; Description_: Bandpass Filter, 87 to 117 MHz, 50 Ohm, Mini-Circuits HF1139; ki_keywords: bandpass filter
pins: 1 IN, 2 GND, 3 GND, 4 GND, 5 GND, 6 GND, 7 GND, 8 OUT

## SXBP-140
designator *  value SXBP-140  Reference: U
Bandpass Filter, 130 to 150 MHz, 50 Ohm, Mini-Circuits HF1139; ki_keywords: Mini-Circuits Band-Pass Filter; ki_fp_filters: Mini?Circuits*HF1139*; Footprint: RF_Mini-Circuits:Mini-Circuits_HF1139_LandPatternPL-230; Datasheet: https://www.minicircuits.com/pdfs/SXBP-140+.pdf; Description_: Bandpass Filter, 130 to 150 MHz, 50 Ohm, Mini-Circuits HF1139
pins: 1 IN, 2 GND, 3 GND, 4 GND, 5 GND, 6 GND, 7 GND, 8 OUT

## SXBP-202
designator *  value SXBP-202  Reference: U
Bandpass Filter, 198 to 206 MHz, 50 Ohm, Mini-Circuits HF1139; ki_fp_filters: Mini?Circuits*HF1139*; Footprint: RF_Mini-Circuits:Mini-Circuits_HF1139_LandPatternPL-230; Datasheet: https://www.minicircuits.com/pdfs/SXBP-202+.pdf; Description_: Bandpass Filter, 198 to 206 MHz, 50 Ohm, Mini-Circuits HF1139; ki_keywords: bandpass filter
pins: 1 IN, 2 GND, 3 GND, 4 GND, 5 GND, 6 GND, 7 GND, 8 OUT

## TA0232A
designator *  value TA0232A  Reference: X
Bandpass Filter, 1090MHz, SAW filter 8-pin; ki_keywords: SAW Filter 1090 bandpass; ki_fp_filters: Filter*SAW*3.8x3.8mm*; Footprint: Filter:Filter_SAW-8_3.8x3.8mm; Datasheet: https://www.golledge.com/media/1831/ma05497.pdf; Description_: Bandpass Filter, 1090MHz, SAW filter 8-pin
pins: 1 IN_1, 2 IN_2, 3 GND, 4 GND, 5 OUT_1, 6 OUT_2, 7 GND, 8 GND

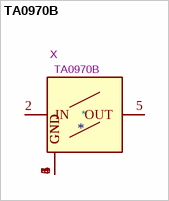
[diagram p5: symbol TA0970B]

## TA0970B
designator *  value TA0970B  Reference: X
Bandpass Filter, 1090MHz, SAW filter 6-pin; ki_keywords: SAW Filter 1090 bandpass MP08167; ki_fp_filters: Filter*SAW*3.8x3.8mm*; Footprint: Filter:Filter_SAW-6_3.8x3.8mm; Datasheet: https://www.golledge.com/media/3785/mp08167.pdf; Description_: Bandpass Filter, 1090MHz, SAW filter 6-pin
pins: 1 GND, 2 IN, 3 GND, 4 GND, 5 OUT, 6 GND